# EAGLE library part CC2592 (library Controller)
Device Symbol for the CC2592 QFN16 RF Amplifier Chip from Texas Instruments. Description: The CC2592 device is a cost-effective and high-performance RF front end for low-power and low-voltage 2.4-GHz wireless applications.The CC2592 device is a range extender for all CC25XX 2.4-GHz low-power RF transceivers, transmitters, and system-on-chip products from Texas Instruments.To increase the link budget, the CC2592 device provides a power amplifier for increased output power and an LNA with a low-noise figure for improved receiver sensitivity.The CC2592 device provides a very small size, high-output power RF design with its 4-mm × 4-mm QFN-16 package.The CC2592 device contains PA, LNA, switches, RF-matching, and balun for simple design of high-performance wireless applications Datasheet: http://www.ti.com/general/docs/lit/getliterature.tsp?genericPartNumber=cc2592&fileType=pdf Note: I have NOT added the thermal pads expected in the datasheet. These should be added by the end user on their PCB Author: Dustin Richmond Date Created: 10/16/2014 Reviewer 1: Reviewer 2:
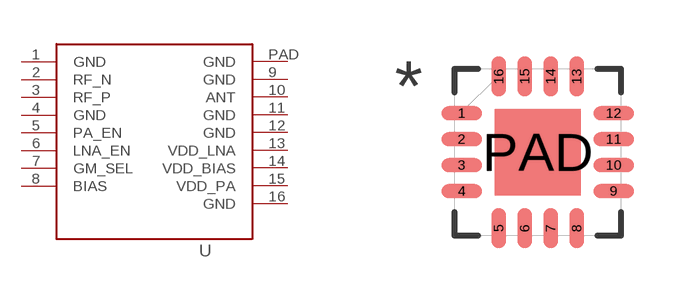
[diagram p5: symbol with the pads of QFN65P400X400X100-17N; footprint QFN65P400X400X100-17N]

Designator prefix U

## CC2592QF  [QFN65P400X400X100-17N]
1  GND  pwr
2  RF_N
3  RF_P
4  GND  pwr
5  PA_EN  in
6  LNA_EN  in
7  GM_SEL  in
8  BIAS  pas
9  GND  pwr
10  ANT
11  GND  pwr
12  GND  pwr
13  VDD_LNA  pwr
14  VDD_BIAS  pwr
15  VDD_PA  pwr
16  GND  pwr
PAD  GND  pwr

## Footprint QFN65P400X400X100-17N (pad centres in mm)
This is the footprint for a QFN-16 device, .65 MM Pitch, 400 mm (w) x 400 mm (l) x 100 mm (h). In the Controller.lbr Library, it is used for the the CC2592 RF Front End from Texas Instruments. (Webpage: http://www.ti.com/product/cc2592, Datasheet: http://www.ti.com/lit/ds/symlink/cc2592.pdf) Author: Dustin Richmond (10/16/2014) Reviwer 1: Reviwer 2:
smd 1 x 0.35: 1 -1.9,0.975; 2 -1.9,0.325; 3 -1.9,-0.325; 4 -1.9,-0.975; 9 1.9,-0.975; 10 1.9,-0.325; 11 1.9,0.325; 12 1.9,0.975
smd 0.35 x 1: 5 -0.975,-1.9; 6 -0.325,-1.9; 7 0.325,-1.9; 8 0.975,-1.9; 13 0.975,1.9; 14 0.325,1.9; 15 -0.325,1.9; 16 -0.975,1.9
smd 2.16 x 2.16: PAD 0,0